# EAGLE library part OLED96X16 (library dp_devices)
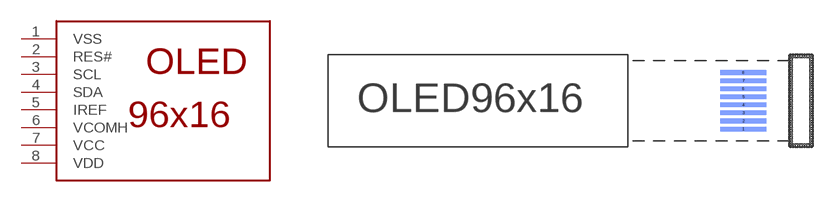
[diagram p39: symbol with the pads of OLED96X16; footprint OLED96X16]

Designator prefix -

## OLED96X16  [OLED96X16]
1  VSS
2  RES#
3  SCL
4  SDA
5  IREF
6  VCOMH
7  VCC
8  VDD

## Footprint OLED96X16 (pad centres in mm)
smd 4 x 0.4 bottom: 1 0,-2.45; 2 0,-1.75; 3 0,-1.05; 4 0,-0.35; 5 0,0.35; 6 0,1.05; 7 0,1.75; 8 0,2.45
hole 0.3 at 4.1,3.9
hole 0.3 at 4.1,3.7
hole 0.3 at 4.1,3.5
hole 0.3 at 4.1,3.3
hole 0.3 at 4.1,3.1
hole 0.3 at 4.1,2.9
hole 0.3 at 4.1,2.7
hole 0.3 at 4.1,2.5
hole 0.3 at 4.1,2.3
hole 0.3 at 4.3,3.9
hole 0.3 at 4.5,3.9
hole 0.3 at 4.7,3.9
hole 0.3 at 4.9,3.9
hole 0.3 at 5.1,3.9
hole 0.3 at 5.3,3.9
hole 0.3 at 5.5,3.9
hole 0.3 at 5.7,3.9
hole 0.3 at 5.9,3.9
hole 0.3 at 5.9,3.7
hole 0.3 at 5.9,3.5
hole 0.3 at 5.9,3.3
hole 0.3 at 5.9,3.1
hole 0.3 at 5.9,2.9
hole 0.3 at 5.9,2.7
hole 0.3 at 5.9,2.5
hole 0.3 at 5.9,2.3
hole 0.3 at 4.1,2.1
hole 0.3 at 4.1,1.9
hole 0.3 at 4.1,1.7
hole 0.3 at 4.1,1.5
hole 0.3 at 4.1,1.3
hole 0.3 at 4.1,1.1
hole 0.3 at 4.1,0.9
hole 0.3 at 4.1,0.7
hole 0.3 at 4.1,0.5
hole 0.3 at 5.9,2.3
hole 0.3 at 5.9,2.1
hole 0.3 at 5.9,1.9
hole 0.3 at 5.9,1.7
hole 0.3 at 5.9,1.5
hole 0.3 at 5.9,1.3
hole 0.3 at 5.9,1.1
hole 0.3 at 5.9,0.9
hole 0.3 at 5.9,0.7
hole 0.3 at 5.9,0.7
hole 0.3 at 5.9,0.5
hole 0.3 at 5.9,0.3
hole 0.3 at 5.9,0.1
hole 0.3 at 5.9,-0.1
hole 0.3 at 5.9,-0.3
hole 0.3 at 5.9,-0.5
hole 0.3 at 5.9,-0.7
hole 0.3 at 5.9,-0.9
hole 0.3 at 5.9,-0.9
hole 0.3 at 5.9,-1.1
hole 0.3 at 5.9,-1.3
hole 0.3 at 5.9,-1.5
hole 0.3 at 5.9,-1.7
hole 0.3 at 5.9,-1.9
hole 0.3 at 5.9,-2.1
hole 0.3 at 5.9,-2.3
hole 0.3 at 5.9,-2.5
hole 0.3 at 4.1,0.3
hole 0.3 at 4.1,0.1
hole 0.3 at 4.1,-0.1
hole 0.3 at 4.1,-0.3
hole 0.3 at 4.1,-0.5
hole 0.3 at 4.1,-0.7
hole 0.3 at 4.1,-0.9
hole 0.3 at 4.1,-1.1
hole 0.3 at 4.1,-1.1
hole 0.3 at 4.1,-1.3
hole 0.3 at 4.1,-1.5
hole 0.3 at 4.1,-1.7
hole 0.3 at 4.1,-1.9
hole 0.3 at 4.1,-2.1
hole 0.3 at 4.1,-2.3
hole 0.3 at 4.1,-2.5
hole 0.3 at 4.1,-2.7
hole 0.3 at 4.1,-2.7
hole 0.3 at 4.1,-2.9
hole 0.3 at 4.1,-3.1
hole 0.3 at 4.1,-3.3
hole 0.3 at 4.1,-3.5
hole 0.3 at 4.1,-3.5
hole 0.3 at 4.1,-3.7
hole 0.3 at 4.1,-3.9
hole 0.3 at 5.9,-2.5
hole 0.3 at 5.9,-2.7
hole 0.3 at 5.9,-2.9
hole 0.3 at 5.9,-3.1
hole 0.3 at 5.9,-3.3
hole 0.3 at 5.9,-3.3
hole 0.3 at 5.9,-3.5
hole 0.3 at 5.9,-3.7
hole 0.3 at 5.9,-3.9
hole 0.3 at 4.3,-3.9
hole 0.3 at 4.5,-3.9
hole 0.3 at 4.7,-3.9
hole 0.3 at 4.9,-3.9
hole 0.3 at 5.1,-3.9
hole 0.3 at 5.3,-3.9
hole 0.3 at 5.5,-3.9
hole 0.3 at 5.7,-3.9